# EAGLE library part RELAY4 (library my_library)
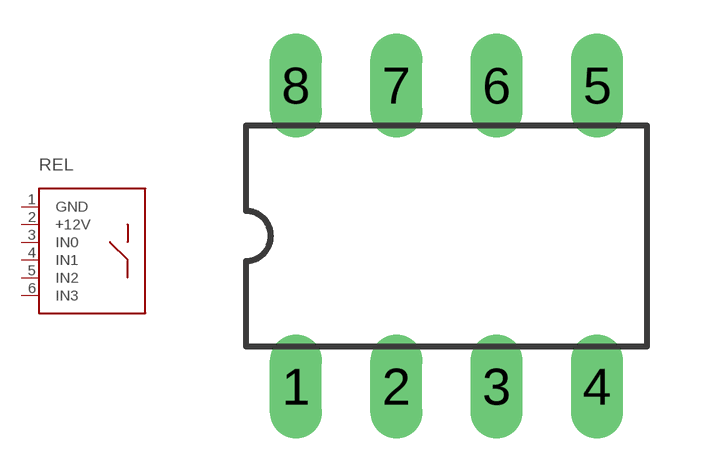
[diagram p5: symbol with the pads of DIL08; footprint DIL08]

Designator prefix REL

## RELAY4  [DIL08]
1  GND  pwr
2  +12V  pwr
3  IN0
4  IN1
5  IN2
6  IN3

## Footprint DIL08 (pad centres in mm)
Dual In Line
drill 0.813 long: 1 -3.81,-3.81; 2 -1.27,-3.81; 3 1.27,-3.81; 4 3.81,-3.81; 5 3.81,3.81; 6 1.27,3.81; 7 -1.27,3.81; 8 -3.81,3.81